# EAGLE library part MSP430FR5969 (library bodger)
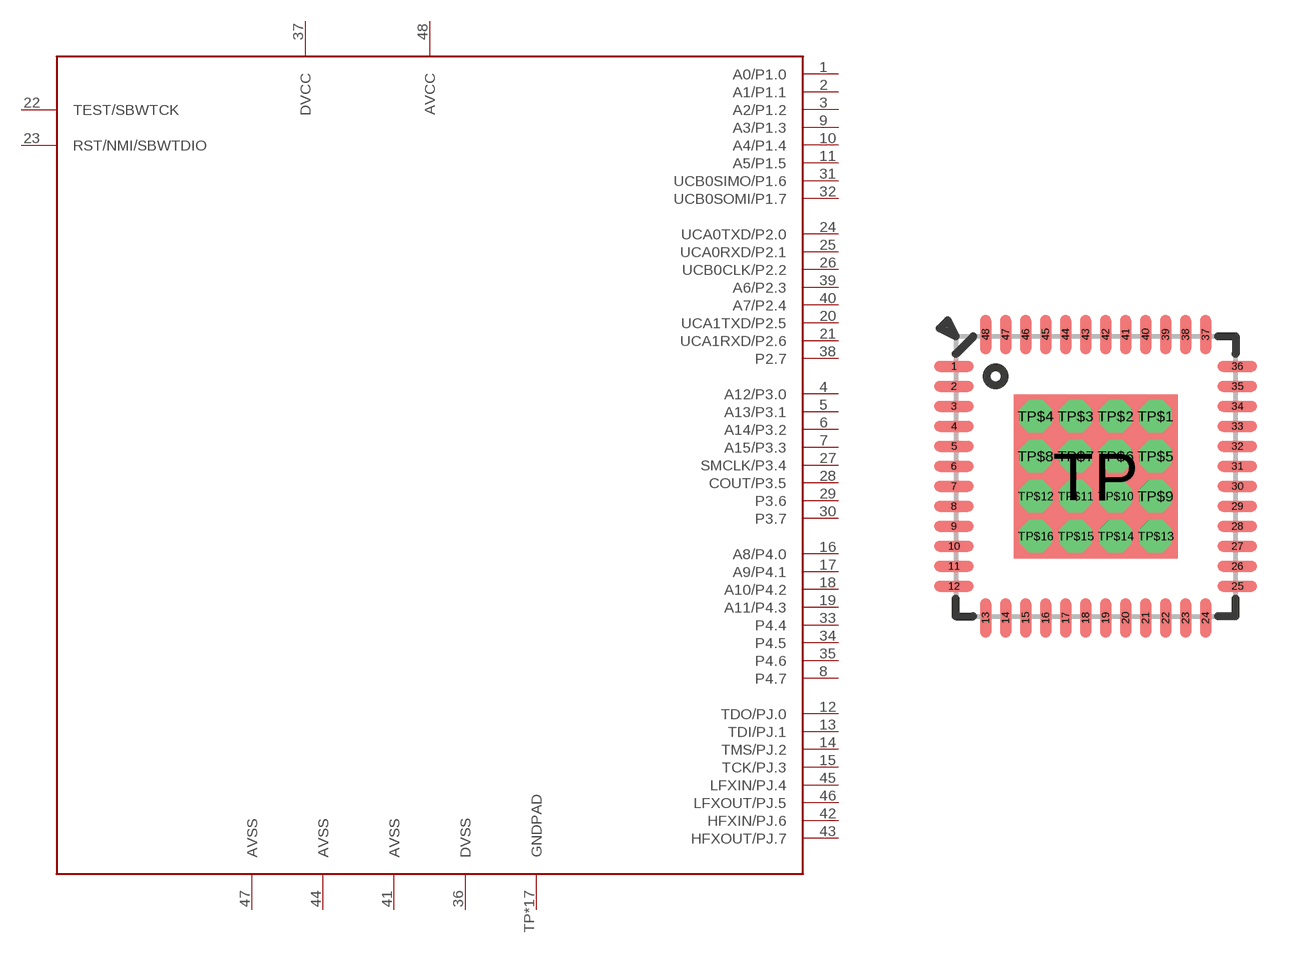
[diagram p39: symbol with the pads of QFN48T; footprint QFN48T]

Designator prefix -

## MSP430FR5969RGZ  [QFN48T]
1  A0/P1.0
2  A1/P1.1
3  A2/P1.2
4  A12/P3.0
5  A13/P3.1
6  A14/P3.2
7  A15/P3.3
8  P4.7
9  A3/P1.3
10  A4/P1.4
11  A5/P1.5
12  TDO/PJ.0
13  TDI/PJ.1
14  TMS/PJ.2
15  TCK/PJ.3
16  A8/P4.0
17  A9/P4.1
18  A10/P4.2
19  A11/P4.3
20  UCA1TXD/P2.5
21  UCA1RXD/P2.6
22  TEST/SBWTCK  in
23  RST/NMI/SBWTDIO
24  UCA0TXD/P2.0
25  UCA0RXD/P2.1
26  UCB0CLK/P2.2
27  SMCLK/P3.4
28  COUT/P3.5
29  P3.6
30  P3.7
31  UCB0SIMO/P1.6
32  UCB0SOMI/P1.7
33  P4.4
34  P4.5
35  P4.6
36  DVSS  pwr
37  DVCC  pwr
38  P2.7
39  A6/P2.3
40  A7/P2.4
41  AVSS  pwr
42  HFXIN/PJ.6
43  HFXOUT/PJ.7
44  AVSS  pwr
45  LFXIN/PJ.4
46  LFXOUT/PJ.5
47  AVSS  pwr
48  AVCC  pwr
TP  GNDPAD  pwr
TP$1  GNDPAD  pwr
TP$2  GNDPAD  pwr
TP$3  GNDPAD  pwr
TP$4  GNDPAD  pwr
TP$5  GNDPAD  pwr
TP$6  GNDPAD  pwr
TP$7  GNDPAD  pwr
TP$8  GNDPAD  pwr
TP$9  GNDPAD  pwr
TP$10  GNDPAD  pwr
TP$11  GNDPAD  pwr
TP$12  GNDPAD  pwr
TP$13  GNDPAD  pwr
TP$14  GNDPAD  pwr
TP$15  GNDPAD  pwr
TP$16  GNDPAD  pwr

## Footprint QFN48T (pad centres in mm)
48 pin quad flatpack no-lead with thermal pad
smd 0.99 x 0.28: 1 -3.545,2.75; 2 -3.545,2.25; 3 -3.545,1.75; 4 -3.545,1.25; 5 -3.545,0.75; 6 -3.545,0.25; 7 -3.545,-0.25; 8 -3.545,-0.75; 9 -3.545,-1.25; 10 -3.545,-1.75; 11 -3.545,-2.25; 12 -3.545,-2.75; 25 3.545,-2.75; 26 3.545,-2.25; 27 3.545,-1.75; 28 3.545,-1.25; 29 3.545,-0.75; 30 3.545,-0.25; 31 3.545,0.25; 32 3.545,0.75; 33 3.545,1.25; 34 3.545,1.75; 35 3.545,2.25; 36 3.545,2.75
smd 0.28 x 0.99: 13 -2.75,-3.545; 14 -2.25,-3.545; 15 -1.75,-3.545; 16 -1.25,-3.545; 17 -0.75,-3.545; 18 -0.25,-3.545; 19 0.25,-3.545; 20 0.75,-3.545; 21 1.25,-3.545; 22 1.75,-3.545; 23 2.25,-3.545; 24 2.75,-3.545; 37 2.75,3.545; 38 2.25,3.545; 39 1.75,3.545; 40 1.25,3.545; 41 0.75,3.545; 42 0.25,3.545; 43 -0.25,3.545; 44 -0.75,3.545; 45 -1.25,3.545; 46 -1.75,3.545; 47 -2.25,3.545; 48 -2.75,3.545
smd 4.1 x 4.1: TP 0,0
drill 0.3 octagon: TP$1 1.5,1.5; TP$2 0.5,1.5; TP$3 -0.5,1.5; TP$4 -1.5,1.5; TP$5 1.5,0.5; TP$6 0.5,0.5; TP$7 -0.5,0.5; TP$8 -1.5,0.5; TP$9 1.5,-0.5; TP$10 0.5,-0.5; TP$11 -0.5,-0.5; TP$12 -1.5,-0.5; TP$13 1.5,-1.5; TP$14 0.5,-1.5; TP$15 -0.5,-1.5; TP$16 -1.5,-1.5